# EAGLE library part MK10DN512ZVLL10 (library Main_Processor)
MCU, 32 BIT, KINETIS, K10, LQFP-100
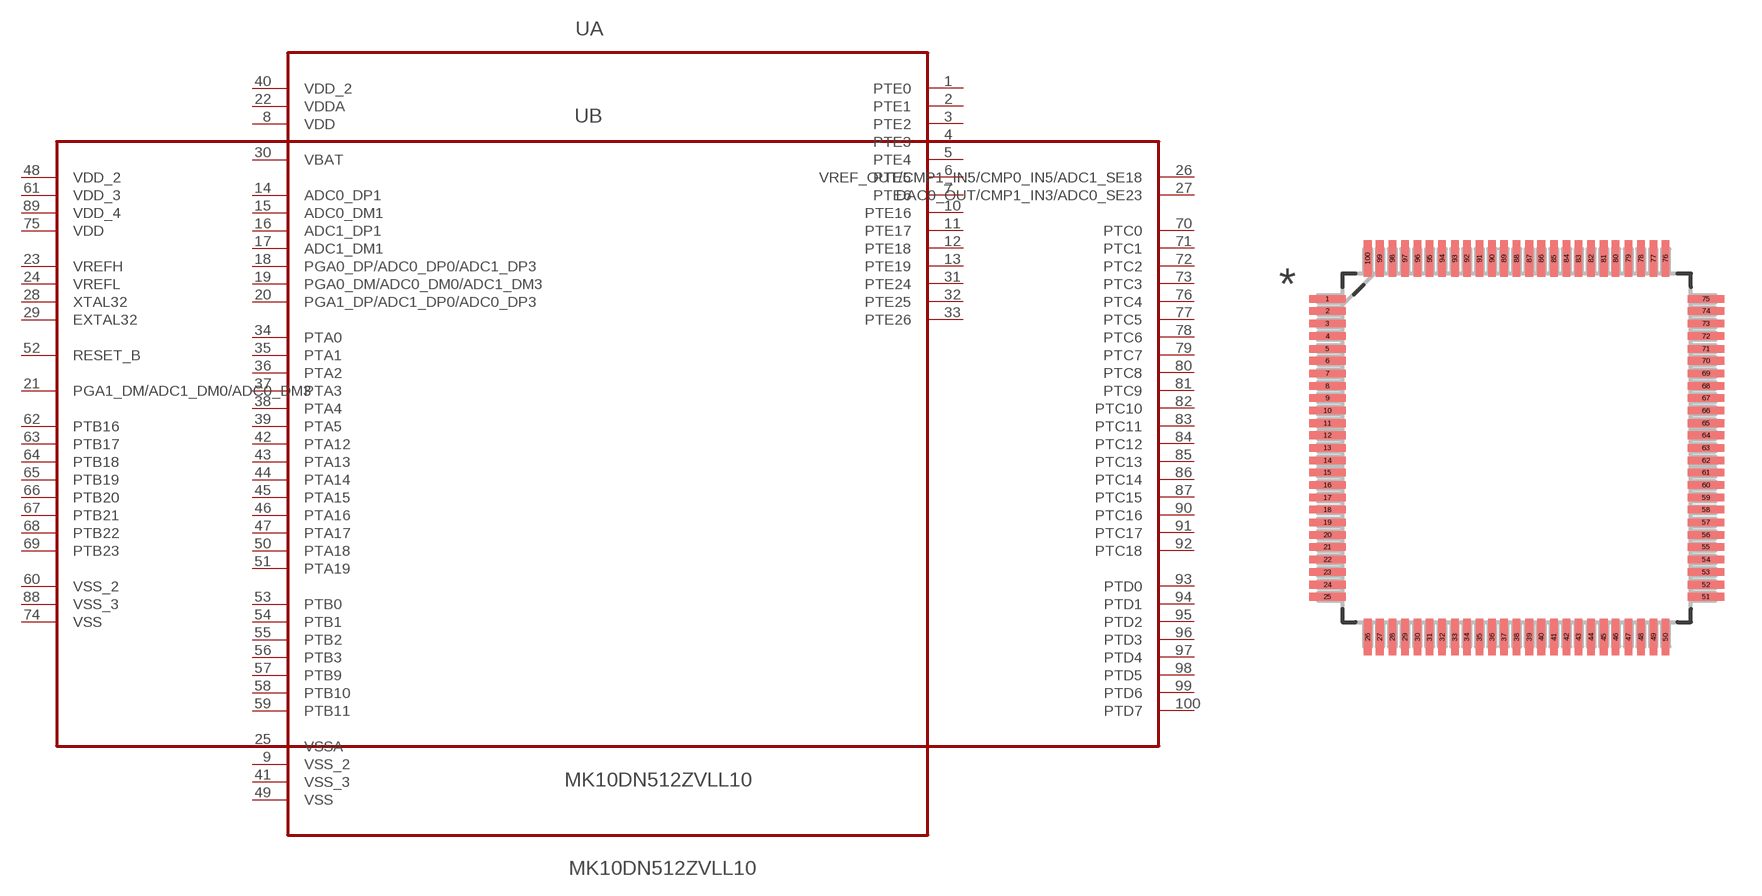
[diagram p0: symbol with the pads of QFP50P1600X1600X170-100N; footprint QFP50P1600X1600X170-100N]

Designator prefix U; gates A=MK10DN512ZVLL10_A B=MK10DN512ZVLL10_B

## MK10DN512ZVLL10 (MPN: MK10DN512ZVLL10; OC_FARNELL: 2070276; OC_NEWARK: 75T7577; PACKAGE: LQFP-100; SUPPLIER: FREESCALE SEMICONDUCTOR)  [QFP50P1600X1600X170-100N]
1  A:PTE0
2  A:PTE1
3  A:PTE2
4  A:PTE3
5  A:PTE4
6  A:PTE5
7  A:PTE6
8  A:VDD  pwr
9  A:VSS_2  pas
10  A:PTE16
11  A:PTE17
12  A:PTE18
13  A:PTE19
14  A:ADC0_DP1  pas
15  A:ADC0_DM1  pas
16  A:ADC1_DP1  pas
17  A:ADC1_DM1  pas
18  A:PGA0_DP/ADC0_DP0/ADC1_DP3  pas
19  A:PGA0_DM/ADC0_DM0/ADC1_DM3  pas
20  A:PGA1_DP/ADC1_DP0/ADC0_DP3  pas
21  B:PGA1_DM/ADC1_DM0/ADC0_DM3  pas
22  A:VDDA  pwr
23  B:VREFH  pas
24  B:VREFL  pas
25  A:VSSA  pas
26  B:VREF_OUT/CMP1_IN5/CMP0_IN5/ADC1_SE18  pas
27  B:DAC0_OUT/CMP1_IN3/ADC0_SE23  pas
28  B:XTAL32  pas
29  B:EXTAL32  pas
30  A:VBAT  pwr
31  A:PTE24
32  A:PTE25
33  A:PTE26
34  A:PTA0
35  A:PTA1
36  A:PTA2
37  A:PTA3
38  A:PTA4
39  A:PTA5
40  A:VDD_2  pwr
41  A:VSS_3  pas
42  A:PTA12
43  A:PTA13
44  A:PTA14
45  A:PTA15
46  A:PTA16
47  A:PTA17
48  B:VDD_2  pwr
49  A:VSS  pas
50  A:PTA18
51  A:PTA19
52  B:RESET_B  pas
53  A:PTB0
54  A:PTB1
55  A:PTB2
56  A:PTB3
57  A:PTB9
58  A:PTB10
59  A:PTB11
60  B:VSS_2  pas
61  B:VDD_3  pwr
62  B:PTB16
63  B:PTB17
64  B:PTB18
65  B:PTB19
66  B:PTB20
67  B:PTB21
68  B:PTB22
69  B:PTB23
70  B:PTC0
71  B:PTC1
72  B:PTC2
73  B:PTC3
74  B:VSS  pas
75  B:VDD  pwr
76  B:PTC4
77  B:PTC5
78  B:PTC6
79  B:PTC7
80  B:PTC8
81  B:PTC9
82  B:PTC10
83  B:PTC11
84  B:PTC12
85  B:PTC13
86  B:PTC14
87  B:PTC15
88  B:VSS_3  pas
89  B:VDD_4  pwr
90  B:PTC16
91  B:PTC17
92  B:PTC18
93  B:PTD0
94  B:PTD1
95  B:PTD2
96  B:PTD3
97  B:PTD4
98  B:PTD5
99  B:PTD6
100  B:PTD7

## Footprint QFP50P1600X1600X170-100N (pad centres in mm)
smd 1.473 x 0.305: 1 -7.62,5.994; 2 -7.62,5.512; 3 -7.62,5.004; 4 -7.62,4.496; 5 -7.62,3.988; 6 -7.62,3.505; 7 -7.62,2.997; 8 -7.62,2.489; 9 -7.62,2.007; 10 -7.62,1.499; 11 -7.62,0.991; 12 -7.62,0.508; 13 -7.62,0; 14 -7.62,-0.508; 15 -7.62,-0.991; 16 -7.62,-1.499; 17 -7.62,-2.007; 18 -7.62,-2.489; 19 -7.62,-2.997; 20 -7.62,-3.505; 21 -7.62,-3.988; 22 -7.62,-4.496; 23 -7.62,-5.004; 24 -7.62,-5.512; 25 -7.62,-5.994; 51 7.62,-5.994; 52 7.62,-5.512; 53 7.62,-5.004; 54 7.62,-4.496; 55 7.62,-3.988; 56 7.62,-3.505; 57 7.62,-2.997; 58 7.62,-2.489; 59 7.62,-2.007; 60 7.62,-1.499; 61 7.62,-0.991; 62 7.62,-0.508; 63 7.62,0; 64 7.62,0.508; 65 7.62,0.991; 66 7.62,1.499; 67 7.62,2.007; 68 7.62,2.489; 69 7.62,2.997; 70 7.62,3.505; 71 7.62,3.988; 72 7.62,4.496; 73 7.62,5.004; 74 7.62,5.512; 75 7.62,5.994
smd 0.305 x 1.473: 26 -5.994,-7.62; 27 -5.512,-7.62; 28 -5.004,-7.62; 29 -4.496,-7.62; 30 -3.988,-7.62; 31 -3.505,-7.62; 32 -2.997,-7.62; 33 -2.489,-7.62; 34 -2.007,-7.62; 35 -1.499,-7.62; 36 -0.991,-7.62; 37 -0.508,-7.62; 38 0,-7.62; 39 0.508,-7.62; 40 0.991,-7.62; 41 1.499,-7.62; 42 2.007,-7.62; 43 2.489,-7.62; 44 2.997,-7.62; 45 3.505,-7.62; 46 3.988,-7.62; 47 4.496,-7.62; 48 5.004,-7.62; 49 5.512,-7.62; 50 5.994,-7.62; 76 5.994,7.62; 77 5.512,7.62; 78 5.004,7.62; 79 4.496,7.62; 80 3.988,7.62; 81 3.505,7.62; 82 2.997,7.62; 83 2.489,7.62; 84 2.007,7.62; 85 1.499,7.62; 86 0.991,7.62; 87 0.508,7.62; 88 0,7.62; 89 -0.508,7.62; 90 -0.991,7.62; 91 -1.499,7.62; 92 -2.007,7.62; 93 -2.489,7.62; 94 -2.997,7.62; 95 -3.505,7.62; 96 -3.988,7.62; 97 -4.496,7.62; 98 -5.004,7.62; 99 -5.512,7.62; 100 -5.994,7.62